# EAGLE library part BTS711L1 (library AS-2-Extras)
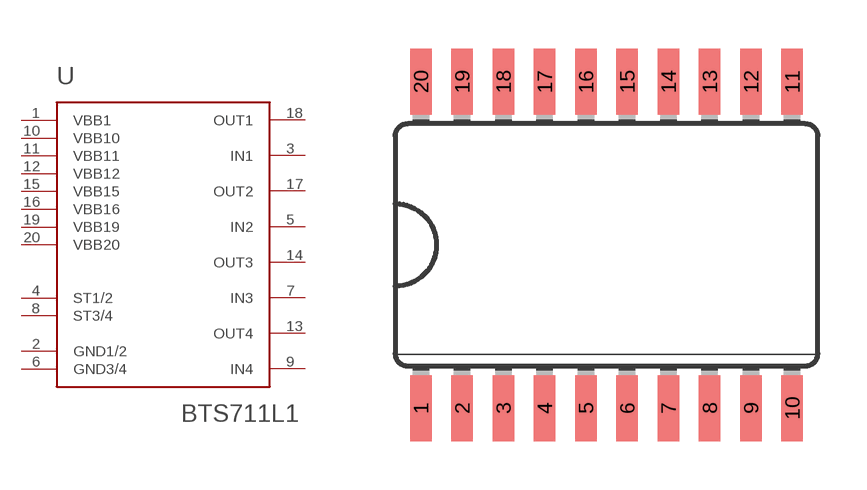
[diagram p7: symbol with the pads of 20-SOIC; footprint 20-SOIC]

Designator prefix -

## BTS711L1  [20-SOIC]
1  VBB1
2  GND1/2
3  IN1
4  ST1/2
5  IN2
6  GND3/4
7  IN3
8  ST3/4
9  IN4
10  VBB10
11  VBB11
12  VBB12
13  OUT4
14  OUT3
15  VBB15
16  VBB16
17  OUT2
18  OUT1
19  VBB19
20  VBB20

## Footprint 20-SOIC (pad centres in mm)
smd 0.66 x 2.032: 1 -5.985,-5.029; 2 -4.715,-5.029; 3 -3.445,-5.029; 4 -2.175,-5.029; 5 -0.905,-5.029; 6 0.365,-5.029; 7 1.635,-5.029; 8 2.905,-5.029; 9 4.175,-5.029; 10 5.445,-5.029; 11 5.445,5.029; 12 4.175,5.029; 13 2.905,5.029; 14 1.635,5.029; 15 0.365,5.029; 16 -0.905,5.029; 17 -2.175,5.029; 18 -3.445,5.029; 19 -4.715,5.029; 20 -5.985,5.029